# Altium footprint library teensy3.6.PcbLib: 1 footprints
Each footprint in its own frame and in the unit in brackets; x right, y up, seen from the top. Pads: shape width x height; smd on the part's side, far side on the other; paste and mask are expansions set on the pad; w line width, h text height; cw(c..) or ccw(c..) is an arc to the next point about the centre after c.
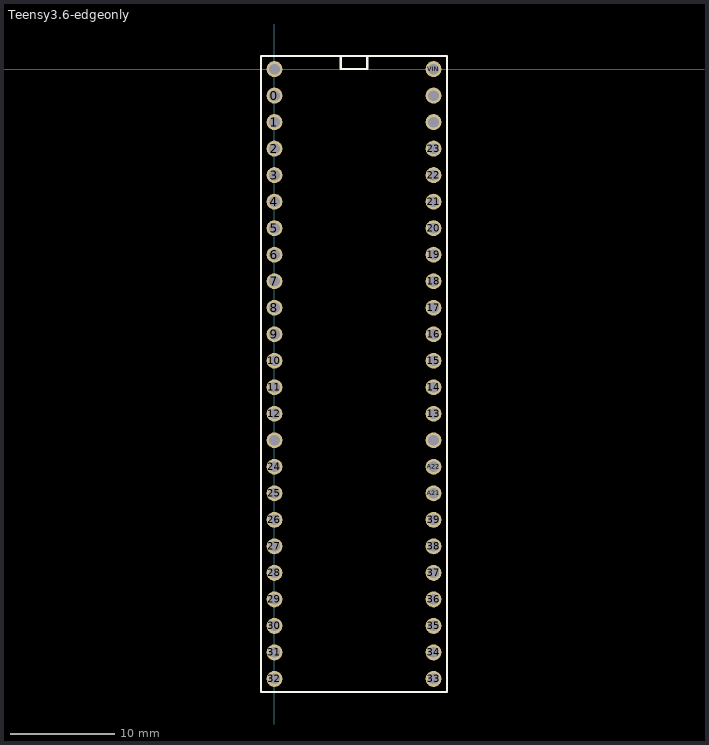
[diagram p0: the footprint, top view; thin cyan lines are the x and y axes]

## Teensy3.6-edgeonly [mil]
pads (48):
  round 60 hole 40: 0(0,-100) 1(0,-200) 2(0,-300) 3(0,-400) 3.3V1(0,-1400) 3.3V2(600,-200) 4(0,-500) 5(0,-600) 6(0,-700) 7(0,-800) 8(0,-900) 9(0,-1000) 10(0,-1100) 11(0,-1200) 12(0,-1300) 13(600,-1300) 14(600,-1200) 15(600,-1100) 16(600,-1000) 17(600,-900) 18(600,-800) 19(600,-700) 20(600,-600) 21(600,-500) 22(600,-400) 23(600,-300) 24(0,-1500) 25(0,-1600) 26(0,-1700) 27(0,-1800) 28(0,-1900) 29(0,-2000) 30(0,-2100) 31(0,-2200) 32(0,-2300) 33(600,-2300) 34(600,-2200) 35(600,-2100) 36(600,-2000) 37(600,-1900) 38(600,-1800) 39(600,-1700) A21(600,-1600) A22(600,-1500) AGND(600,-100) GND1(0,0) GND2(600,-1400) VIN(600,0)
Top Overlay:
  lines w7.87: 250,50 250,0 350,0 350,50 ; -50,-2350 -50,50 650,50 650,-2350 -50,-2350
3D body: height 496.06, standoff 433.07, extent -50,-2350 650,50